# EAGLE library part ZM1000 (library Tubes111)
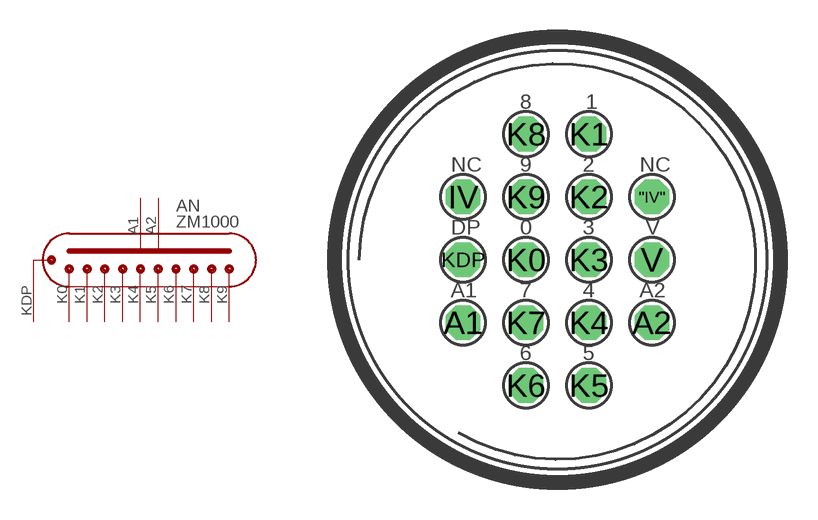
[diagram p15: symbol with the pads of ZM1000; footprint ZM1000]

Designator prefix AN

## ZM1000  [ZM1000]
A1  A1  pas
A2  A2  pas
K0  0  pas
K1  1  pas
K2  2  pas
K3  3  pas
K4  4  pas
K5  5  pas
K6  6  pas
K7  7  pas
K8  8  pas
K9  9  pas
KDP  DPL  pas

## Footprint ZM1000 (pad centres in mm)
drill 0.813 pad 1.397 octagon: "IV" 3.81,2.54; A1 -3.81,-2.54; A2 3.81,-2.54; IV -3.81,2.54; K0 -1.27,0; K1 1.27,5.08; K2 1.27,2.54; K3 1.27,0; K4 1.27,-2.54; K5 1.27,-5.08; K6 -1.27,-5.08; K7 -1.27,-2.54; K8 -1.27,5.08; K9 -1.27,2.54; KDP -3.81,0; V 3.81,0